# EAGLE library part MAX6971AUG+ (library 3DPOV)
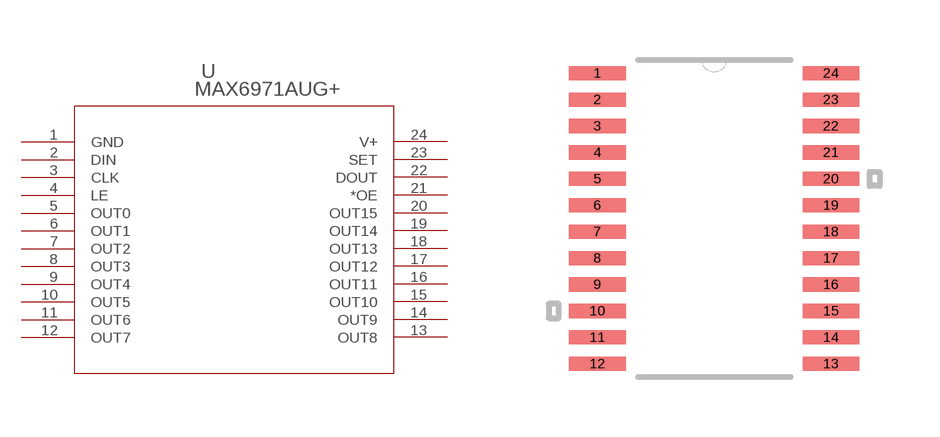
[diagram p0: symbol with the pads of 21-0066J_24; footprint 21-0066J_24]

Designator prefix U

## MAX6971AUG+ (MANUFACTURER_PART_NUMBER: max6971aug+; VENDOR: MAXIM)  [21-0066J_24]
1  GND
2  DIN  in
3  CLK  in
4  LE  in
5  OUT0  out
6  OUT1  out
7  OUT2  out
8  OUT3  out
9  OUT4  out
10  OUT5  out
11  OUT6  out
12  OUT7  out
13  OUT8  out
14  OUT9  out
15  OUT10  out
16  OUT11  out
17  OUT12  pas
18  OUT13  out
19  OUT14  out
20  OUT15  out
21  *OE  pas
22  DOUT  out
23  SET  pas
24  V+  pwr

## Footprint 21-0066J_24 (pad centres in mm)
smd 1.422 x 0.356: 1 -2.921,3.632; 2 -2.921,2.972; 3 -2.921,2.311; 4 -2.921,1.651; 5 -2.921,0.991; 6 -2.921,0.33; 7 -2.921,-0.33; 8 -2.921,-0.991; 9 -2.921,-1.651; 10 -2.921,-2.311; 11 -2.921,-2.972; 12 -2.921,-3.632; 13 2.921,-3.632; 14 2.921,-2.972; 15 2.921,-2.311; 16 2.921,-1.651; 17 2.921,-0.991; 18 2.921,-0.33; 19 2.921,0.33; 20 2.921,0.991; 21 2.921,1.651; 22 2.921,2.311; 23 2.921,2.972; 24 2.921,3.632